# Altium schematic symbol library VS-15MQ040HM35AT.SchLib: 1 symbol
Pins are listed as number, name and electrical type; pins without a type are passive.

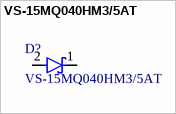
[diagram p0: symbol VS-15MQ040HM3/5AT]

## VS-15MQ040HM3/5AT
designator D?
Schottky Diodes & Rectifiers Schottky - SMA-e3; Manufacturer: Vishay Semiconductors; Forward Current: 1.5A; Forward Voltage: 340mV; PN: Schottky Diodes & Rectifiers Schottky - SMA-e3; Footprint: DO-214AC-2; Package: DO-214AC-2; Supplier 1: Mouser; Supplier Part Number 1: 78-VS-15MQ040HM35AT; ComponentLink1Description: Datasheet; ComponentLink1URL: https://www.mouser.com/datasheet/2/427/vs-15mq040hm3-1769377.pdf
footprint DO-214AC-2
pins: 1 C, 2 A